# Altium footprint library VBlib_Inductors.PcbLib: 29 footprints (part 1 of 2)
Each footprint in its own frame and in the unit in brackets; x right, y up, seen from the top. Pads: shape width x height; smd on the part's side, far side on the other; paste and mask are expansions set on the pad; w line width, h text height; cw(c..) or ccw(c..) is an arc to the next point about the centre after c.
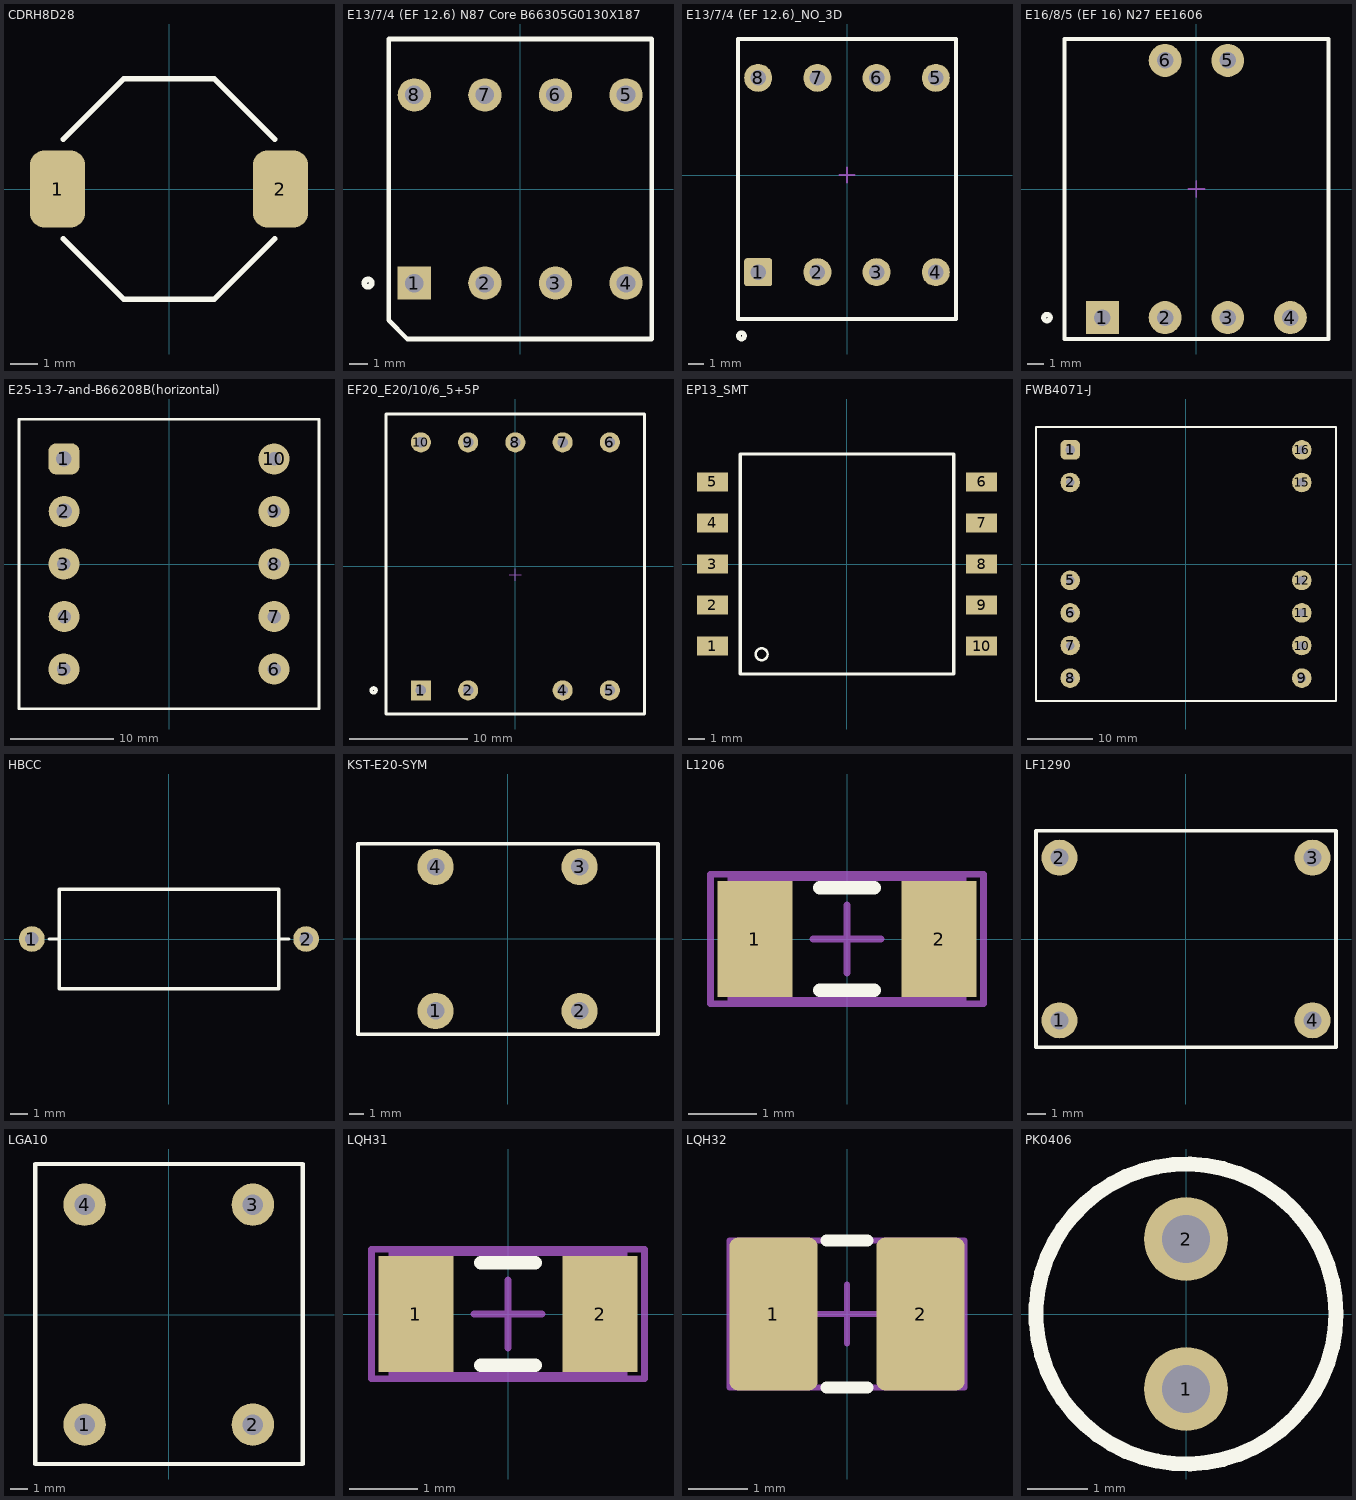
[diagram p0: the footprints below, top view; thin cyan lines are the x and y axes]

## CDRH8D28 [mm] "Footprint for SUMIDA power inductor CDRH8D28 Series"
height 3
pads (2):
  rrect50% 2x2.8 smd: 1(-4.05,0) 2(4.05,0)
Top Overlay:
  lines w0.2: -3.85,-1.8 -1.65,-4 1.65,-4 3.85,-1.8 ; -3.85,1.8 -1.65,4 1.65,4 3.85,1.8
3D body: height 3, standoff 0, extent -3.85,-4 3.85,4

## E13/7/4 (EF 12.6) N87 Core B66305G0130X187 [mm] "Трансформатор для драйвера AC-DC 5V, Coil former Horizontal = B66202B1108T001"
height 10.4
pads (8):
  rect 1.8x1.8 hole 1: 1(-5.715,-5.08)
  round 1.8 hole 1: 2(-1.905,-5.08) 3(1.905,-5.08) 4(5.715,-5.08) 5(5.715,5.08) 6(1.905,5.08) 7(-1.905,5.08) 8(-5.715,5.08)
Top Overlay:
  circle w0.3: c-8.215,-5.08 r0.2
  lines w0.25: -7.1,-7.095 -6.095,-8.1 7.1,-8.1 7.1,8.1 -7.1,8.1 -7.1,-7.095
3D body "Transformer E13x7x4.STEP": height 12.1, standoff -1.9, extent -7.1,-8.1 7.1,8.1

## E13/7/4 (EF 12.6)_NO_3D [mm]
pads (8):
  rrect20% 1.8x1.8 hole 1: 1(-5.715,-6.25)
  round 1.8 hole 1: 2(-1.905,-6.25) 3(1.905,-6.25) 4(5.715,-6.25) 5(5.715,6.25) 6(1.905,6.25) 7(-1.905,6.25) 8(-5.715,6.25)
Top Overlay:
  circle w0.3: c-6.79,-10.348 r0.2
  lines w0.25: -7,-9.27 7,-9.27 7,8.75 -7,8.75 -7,-1.65 -7,-9.27
Mechanical 15:
  lines w0.1: -0.5,0 0.5,0 ; 0,-0.5 0,0.5
3D body: height 6, standoff 0, extent -7,-9.27 7,8.75
3D body: height 15, standoff 0, extent -4.78,-5.25 4.72,-4.5
3D body: height 15, standoff 0, extent -4.78,3 4.72,3.75
3D body: height 15, standoff 0, extent -4.78,-4.5 4.72,3
3D body: height 12.5, standoff 0, extent -7.015,-7.25 6.985,5.75
3D body: height 0, standoff -2.5, extent -6.015,5.95 -5.415,6.55
3D body: height 0, standoff -2.5, extent -2.205,5.95 -1.605,6.55
3D body: height 0, standoff -2.5, extent 1.605,5.95 2.205,6.55
3D body: height 0, standoff -2.5, extent 5.415,5.95 6.015,6.55
3D body: height 0, standoff -2.5, extent -6.015,-6.55 -5.415,-5.95
3D body: height 0, standoff -2.5, extent -2.205,-6.55 -1.605,-5.95
3D body: height 0, standoff -2.5, extent 1.605,-6.55 2.205,-5.95
3D body: height 0, standoff -2.5, extent 5.415,-6.55 6.015,-5.95

## E16/8/5 (EF 16) N27 EE1606 [mm] "Трансформатор для драйвера AC-DC 5V, Coil former Horizontal"
height 11.7
pads (6):
  rect 2x2 hole 1: 1(-5.7,-7.8)
  round 2 hole 1: 2(-1.9,-7.8) 3(1.9,-7.8) 4(5.7,-7.8) 5(1.9,7.8) 6(-1.9,7.8)
Top Overlay:
  circle w0.3: c-9.066,-7.8 r0.2
  lines w0.25: -7.998,-9.1 8.002,-9.1 8.002,9.1 -7.998,9.1 -7.998,-9.1
Mechanical 15:
  lines w0.1: -0.5,0 0.5,0 ; 0,-0.5 0,0.5
3D body: height 12, standoff 0, extent -5,-5.75 5,-5
3D body: height 12, standoff 0, extent -5,5 5,5.75
3D body: height 0, standoff -2.5, extent 5.4,-8.1 6,-7.5
3D body: height 0, standoff -2.5, extent 1.6,-8.1 2.2,-7.5
3D body: height 0, standoff -2.5, extent -2.2,-8.1 -1.6,-7.5
3D body: height 0, standoff -2.5, extent -6,-8.1 -5.4,-7.5
3D body: height 0, standoff -2.5, extent 1.6,7.5 2.2,8.1
3D body: height 0, standoff -2.5, extent -2.2,7.5 -1.6,8.1
3D body: height 5, standoff 0, extent -7.998,-9.1 8.002,9.1
3D body: height 13, standoff 0, extent -5,-5 5,5
3D body: height 10, standoff 0, extent -7.998,-9.1 8.002,7.1

## E25-13-7-and-B66208B(horizontal) [mm] "Трансформатор для драйвера 18Вт (ГЗ Пульсар)"
height 34
pads (10):
  rrect50% 3x3 hole 1.5: 1(-10.16,10.16)
  round 3 hole 1.5: 2(-10.13,5.08)
  round 3 hole 1.3: 3(-10.16,0) 4(-10.13,-5.08) 5(-10.16,-10.16) 6(10.16,-10.16) 7(10.16,-5.08) 8(10.16,0) 9(10.16,5.08) 10(10.16,10.16)
Top Overlay:
  lines w0.254: -14.5,-14 14.5,-14 14.5,14 -14.5,14 -14.5,-14
3D body "E25-13-7-and-B66208B(horizontal).STEP": height 20.5, standoff -3.5, extent -14,-13.75 14,13.75

## EF20_E20/10/6_5+5P [mm]
pads (9):
  rect 1.7x1.7 hole 0.9: 1(-8,-10.5)
  round 1.7 hole 0.9: 2(-4,-10.5) 4(4,-10.5) 5(8,-10.5) 6(8,10.5) 7(4,10.5) 8(0,10.5) 9(-4,10.5) 10(-8,10.5)
Top Overlay:
  circle w0.3: c-12,-10.5 r0.2
  lines w0.25: -10.95,-12.5 10.95,-12.5 10.95,12.9 -10.95,12.9 -10.95,-12.5
Mechanical 15:
  lines w0.1: -0.5,-0.7 0.5,-0.7 ; 0,-1.2 0,-0.2
3D body: height 0, standoff -2.5, extent -8.298,10.201 -7.7,10.799
3D body: height 0, standoff -2.5, extent -4.298,10.201 -3.7,10.799
3D body: height 0, standoff -2.5, extent -0.298,10.201 0.3,10.799
3D body: height 0, standoff -2.5, extent 3.702,10.201 4.3,10.799
3D body: height 0, standoff -2.5, extent 7.702,10.201 8.3,10.799
3D body: height 0, standoff -2.5, extent 7.702,-10.799 8.3,-10.201
3D body: height 0, standoff -2.5, extent 3.702,-10.799 4.3,-10.201
3D body: height 0, standoff -2.5, extent -4.298,-10.799 -3.7,-10.201
3D body: height 0, standoff -2.5, extent -8.298,-10.799 -7.7,-10.201
3D body: height 6.8, standoff 0, extent -10.95,-12.5 10.95,12.9
3D body: height 12.7, standoff 6.8, extent -10,-13.5 10,6.9
3D body: height 17, standoff 1, extent -6,-9.4 6,2.8
3D body: height 16.8, standoff 0, extent -6.95,-10.2 6.95,-9.4
3D body: height 16.8, standoff 0, extent -6.95,2.8 6.95,3.6

## EP13_SMT [mm] "EP13 SMT Core, 50W"
height 13
pads (10):
  rect 1.88x1.17 smd: 1(-8.2,-5) 2(-8.2,-2.5) 3(-8.2,0) 4(-8.2,2.5) 5(-8.2,5) 6(8.2,5) 7(8.2,2.5) 8(8.2,0) 9(8.2,-2.5) 10(8.2,-5)
Top Overlay:
  circle w0.15: c-5.2,-5.5 r0.361
  lines w0.2: -6.5,-6.7 6.5,-6.7 6.5,6.7 -6.5,6.7 -6.5,-6.7
3D body "TP13_SMT.STEP": height 12.33, standoff -0.05, extent -8.827,-6.7 8.826,6.762

## FWB4071-J [mm] "Трансформатор для драйвера 75Вт"
height 34
pads (12):
  rrect50% 3x3 hole 1.5: 1(-17.75,17.5)
  round 3 hole 1.3: 2(-17.75,12.5) 5(-17.75,-2.5) 6(-17.75,-7.5) 7(-17.75,-12.5) 8(-17.75,-17.5) 9(17.75,-17.5) 10(17.75,-12.5) 11(17.75,-7.5) 12(17.75,-2.5) 15(17.75,12.5) 16(17.75,17.5)
Top Overlay:
  lines w0.254: -23,-21 23,-21 23,21 -23,21 -23,-21
3D body "FWPTER40H421K.STEP": height 32.94, standoff -3.5, extent -23.025,-21.002 22.975,21.003

## HBCC [mm]
height 6
pads (2):
  round 1.5 hole 0.8: 1(-8,0) 2(8,0)
Top Overlay:
  lines w0.2: -7,0 -6.4,0 ; 6.4,0 7,0 ; -6.4,-2.9 6.4,-2.9 6.4,2.9 -6.4,2.9 -6.4,-2.9
3D body: height 5.2, standoff 0.8, extent -3,-2.2 3,2.2
3D body: height 5.9, standoff 0.1, extent 0.6,-2.897 6.4,2.897
3D body: height 5.9, standoff 0.1, extent -6.4,-2.897 -0.6,2.897
3D body "Axial_3x10x0.STEP": height 3.3, standoff -2.5, extent -8.3,-0.3 2,0.3
3D body "Axial_3x10x0.STEP": height 3.3, standoff -2.5, extent -2,-0.3 8.3,0.3

## KST-E20-SYM [mm]
pads (4):
  round 2.5 hole 1.2: 1(-4.953,-4.953) 2(4.953,-4.953) 3(4.953,4.953) 4(-4.953,4.953)
Top Overlay:
  lines w0.254: -10.287,-6.553 10.347,-6.553 10.347,6.547 -10.287,6.547 -10.287,-6.553
3D body "KST-E20-SYM.STEP": height 20.3, standoff -3.1, extent -9.953,-6.053 10.047,5.947

## L1206 [mm] "Chip Inductor"
height 3
pads (2):
  rect 1.1x1.7 smd: 1(-1.35,0) 2(1.35,0)
Top Overlay:
  lines w0.2: -0.4,-0.75 0.4,-0.75 ; -0.4,0.75 0.4,0.75
Mechanical 13:
  lines w0.1: -1.7,-0.9 1.7,-0.9 1.7,0.9 -1.7,0.9 -1.7,-0.9
Mechanical 15:
  lines w0.1: -0.5,0 0.5,0 ; 0,-0.5 0,0.5 ; -2,-0.95 2,-0.95 2,0.95 -2,0.95 -2,-0.95

## LF1290 [mm] "AC COMMON MODE COIL <Pin Type: LF Series> LF1290"
height 9
pads (4):
  round 2 hole 1: 1(-7,-4.5) 2(-7,4.5) 3(7,4.5) 4(7,-4.5)
Top Overlay:
  lines w0.2: -8.3,-6 -8.3,6 8.3,6 8.3,-6 -8.3,-6
3D body "LF1290.STEP": height 9.3, standoff -2.5, extent -8,-6.01 8,6

## LGA10 [mm]
pads (4):
  round 2.5 hole 1.2: 1(-4.953,-6.477) 2(4.953,-6.477) 3(4.953,6.477) 4(-4.953,6.477)
Top Overlay:
  lines w0.254: -7.873,-8.8 7.9,-8.8 7.9,8.873 -7.873,8.873 -7.873,-8.8
3D body "PLA10.STEP": height 16.4, standoff -3.2, extent -7.5,-8.385 7.5,8.407

## LQH31 [mm] "Chip Inductor, Murata LQH31 Series"
height 3
pads (2):
  rect 1.1x1.7 smd: 1(-1.35,0) 2(1.35,0)
Top Overlay:
  lines w0.2: -0.4,-0.75 0.4,-0.75 ; -0.4,0.75 0.4,0.75
Mechanical 13:
  lines w0.1: -1.7,-0.9 1.7,-0.9 1.7,0.9 -1.7,0.9 -1.7,-0.9
Mechanical 15:
  lines w0.1: -0.5,0 0.5,0 ; 0,-0.5 0,0.5 ; -2,-0.95 2,-0.95 2,0.95 -2,0.95 -2,-0.95
3D body "Murata LQH31.STEP": height 1.8, standoff 0, extent -1.7,-0.807 1.7,0.808

## LQH32 [mm]
pads (2):
  rrect20% 1.5x2.6 smd: 1(-1.25,0) 2(1.25,0)
Top Overlay:
  lines w0.2: -0.35,-1.25 0.35,-1.25 ; -0.35,1.25 0.35,1.25
Mechanical 13:
  lines w0.1: -1.7,-1.25 -1.7,1.25 1.7,1.25 1.7,-1.25 -1.7,-1.25
Mechanical 15:
  lines w0.1: -0.5,0 0.5,0 ; 0,-0.5 0,0.5 ; -2,-1.25 -2,1.25 2,1.25 2,-1.25 -2,-1.25
3D body "Murata LQH31.STEP": height 1.8, standoff 0, extent -1.7,-0.807 1.7,0.808

## PK0406 [mm] "INDUCTANCE"
height 8
pads (2):
  round 1.4 hole 0.8: 1(0,-1.25) 2(0,1.25)
Top Overlay:
  circle w0.25: c0,0 r2.5
3D body: height 8, standoff 0, extent -2.5,-2.497 2.5,2.497
3D body: height 0.5, standoff -2.5, extent -0.273,0.976 0.275,1.525
3D body: height 0.5, standoff -2.5, extent -0.273,-1.524 0.275,-0.975